# EAGLE library part 684S7W2103L461 (library D-Sub Connectors)
CONN D-SUB PLUG 7POS R/A SOLDER Manufacturer's datasheet <https://www.norcomp.net/rohspdfs/PowerD-ComboD/SEAL-D/684S/684S7W2103L461.pdf>
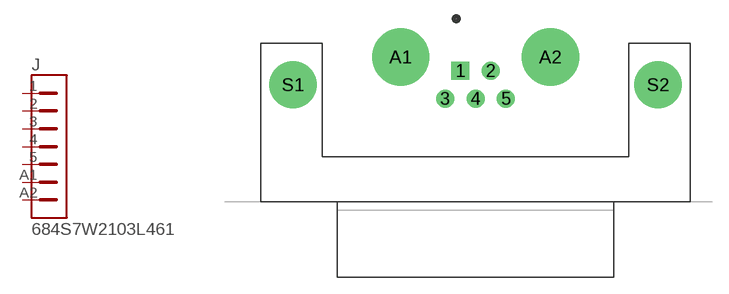
[diagram p8: symbol with the pads of 684S7W2103L461; footprint 684S7W2103L461]

Designator prefix J

## 684S7W2103L461 (CREATED_BY: PCBLayout.com; DIGIKEY_PART_NO: NOR1187-ND; MANUFACTURER: NorComp Inc.; MPN: 684S7W2103L461)  [684S7W2103L461]
1  1  pas
2  2  pas
3  3  pas
4  4  pas
5  5  pas
A1  A1  pas
A2  A2  pas

## Footprint 684S7W2103L461 (pad centres in mm)
drill 1.1 square: 1 -1.38,-1.26
drill 1.1: 2 1.38,-1.26; 3 -2.77,-3.8; 4 0,-3.8; 5 2.77,-3.8
drill 4.2: A1 -6.83,0; A2 6.83,0
drill 3.3: S1 -16.65,-2.53; S2 16.65,-2.53